# Altium footprint library PcbLib1.PcbLib: 14 footprints
Each footprint in its own frame and in the unit in brackets; x right, y up, seen from the top. Pads: shape width x height; smd on the part's side, far side on the other; paste and mask are expansions set on the pad; w line width, h text height; cw(c..) or ccw(c..) is an arc to the next point about the centre after c.
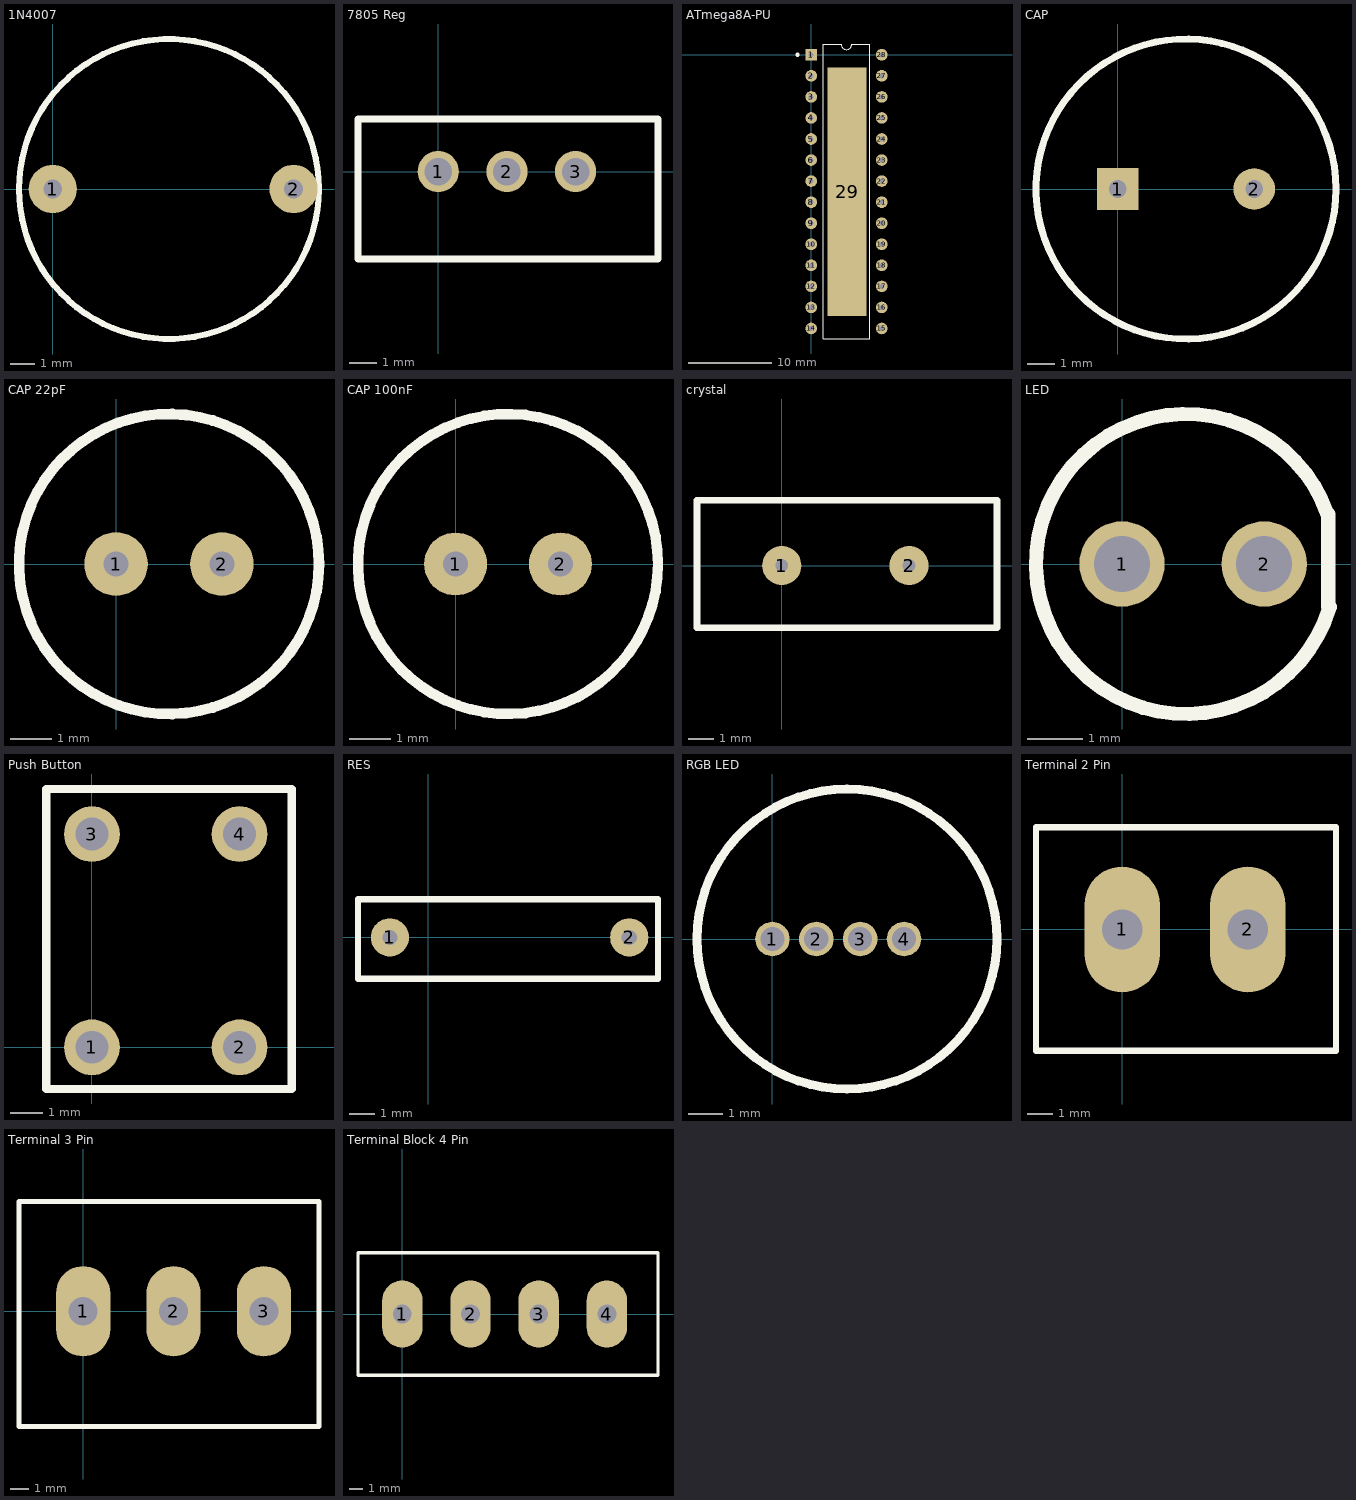
[diagram p0: the footprints below, top view; thin cyan lines are the x and y axes]

## 1N4007 [mm]
pads (2):
  round 2 hole 0.78: 1(0,0) 2(10,0)
Top Overlay:
  circle w0.254: c4.826,0 r6.228
3D body "1N4007-T.STEP": height 2.68, standoff -21.77, extent -0.521,-1.346 10.427,1.346

## 7805 Reg [mm]
pads (3):
  round 1.5 hole 1: 1(0,0) 2(2.5,0) 3(5,0)
Top Overlay:
  lines w0.254: -2.921,-3.175 8.001,-3.175 8.001,1.905 -2.921,1.905 -2.921,-3.175
3D body "L7805C-V.STEP": height 22.68, standoff -6.22, extent -2.56,-2.921 7.64,1.579

## ATmega8A-PU [mm]
pads (29):
  rect 1.4x1.4 hole 0.6: 1(0,0)
  round 1.4 hole 0.6: 2(0,-2.54) 3(0,-5.08) 4(0,-7.62) 5(0,-10.16) 6(0,-12.7) 7(0,-15.24) 8(0,-17.78) 9(0,-20.32) 10(0,-22.86) 11(0,-25.4) 12(0,-27.94) 13(0,-30.48) 14(0,-33.02) 15(8.509,-33.02) 16(8.509,-30.48) 17(8.509,-27.94) 18(8.509,-25.4) 19(8.509,-22.86) 20(8.509,-20.32) 21(8.509,-17.78) 22(8.509,-15.24) 23(8.509,-12.7) 24(8.509,-10.16) 25(8.509,-7.62) 26(8.509,-5.08) 27(8.509,-2.54) 28(8.509,0)
  rect 4.7x30 smd: 29(4.318,-16.51)
Top Overlay:
  circle w0.254: c-1.651,0 r0.127
  lines w0.1: 1.435,-34.29 7.074,-34.29 7.074,1.27 4.889,1.27 cw(c4.255,1.27) 3.619,1.27 1.435,1.27 1.435,-34.29
3D body "ATMEGA8A-PU--3DModel-STEP-56544.STEP": height 4.57, standoff -3.43, extent -0.762,-33.846 9.398,0.826

## CAP [mil]
pads (2):
  rect 60x60 hole 25.59: 1(0,0)
  round 60 hole 25.59: 2(196.85,0)
Top Overlay:
  circle w10: c98.43,0 r216.54
3D body "EEU-FS1J270B.STEP": height 492.13, standoff -610.24, extent -8.27,-100 208.27,96.85

## CAP 22pF [mil]
pads (2):
  round 60 hole 23.62: 1(0,0) 2(100,0)
Top Overlay:
  circle w10: c50,0 r141.6
3D body "C320C104M5U5TA--3DModel-STEP-510211.STEP": height 249.61, standoff -275.59, extent -49.9,-65 149.9,60.2

## CAP 100nF [mil]
pads (2):
  round 60 hole 23.62: 1(0,0) 2(100,0)
Top Overlay:
  circle w10: c50,0 r143
3D body "C320C104M5U5TA--3DModel-STEP-510211.STEP": height 249.61, standoff -275.59, extent -49.9,-65 149.9,60.2

## crystal [mil]
pads (2):
  round 60 hole 19.68: 1(0,0) 2(195.28,0)
Top Overlay:
  lines w10: -130,-95 -130,100 330,100 330,-95 -130,-95
3D body "ECS-115.2-S-4.STEP": height 137.8, standoff -500, extent -123.43,-91.54 323.43,91.54

## LED [mil]
pads (2):
  round 60 hole 39.37: 1(0,0) 2(100,0)
Top Overlay:
  lines w10: 144.55,34.84 ccw(c45,0) 146.03,-30.31 ; 145,-30 145,35
3D body "Download_STP_WL-TMRC-3mm_rev1.stp": height 208.66, standoff -1039.37, extent -25.28,-80 115.28,70.93

## Push Button [mm]
pads (4):
  round 1.7 hole 1: 1(0,0) 2(4.5,0) 3(0,6.5) 4(4.5,6.5)
Top Overlay:
  lines w0.254: -1.397,-1.27 6.096,-1.27 6.096,7.874 -1.397,7.874 -1.397,-1.27
3D body "tactileswitch-short.STEP": height 4.95, standoff -3.38, extent -0.762,-0.544 5.245,7.148

## RES [mil]
pads (2):
  round 60 hole 23.62: 1(-60,0) 2(314.96,0)
Top Overlay:
  lines w10: -110,-65 360,-65 360,60 -110,60 -110,-65
3D body "CFR-25JB-52-330R.STEP": height 101.99, standoff -933.07, extent -73.82,-51.18 323.82,51.18

## RGB LED [mm]
pads (4):
  round 1 hole 0.7: 1(0,0) 2(1.27,0) 3(2.54,0) 4(3.81,0)
Top Overlay:
  circle w0.254: c2.159,0 r4.344
3D body "QBL8RGB60D0-2897--3DModel-STEP-269445.STEP": height 11.65, standoff -24, extent -0.495,-3.052 4.814,2.798

## Terminal 2 Pin [mm]
pads (2):
  oval 3x5 hole 1.6: 1(0,0) 2(5,0)
Top Overlay:
  lines w0.254: -3.429,-4.826 8.509,-4.826 8.509,4.064 -3.429,4.064 -3.429,-4.826
3D body "Download_STP_691213510002_rev1.stp": height 10, standoff -3.5, extent -3.14,-4.445 8.22,3.655

## Terminal 3 Pin [mm]
pads (3):
  oval 3x5 hole 1.6: 1(0,0) 2(5,0) 3(10,0)
Top Overlay:
  lines w0.254: -3.55,-6.375 -3.55,6.075 13.05,6.075 13.05,-6.375 -3.55,-6.375
3D body "Download_STP_691236510003_rev1.stp": height 18, standoff -4, extent -3.245,-5.775 12.595,5.575

## Terminal Block 4 Pin [mm]
pads (4):
  oval 3x5 hole 1.4: 1(0,0) 2(5.08,0) 3(10.16,0) 4(15.24,0)
Top Overlay:
  lines w0.254: -3.302,-4.572 19.05,-4.572 19.05,4.572 -3.302,4.572 -3.302,-4.572
3D body "282837-4--3DModel-STEP-1.STEP": height 11.25, standoff -2.25, extent -2.54,-4.009 18.38,4.191